# Altium schematic symbol library LED_schematic.SchLib: 15 symbols
Pins are listed as number, name and electrical type; pins without a type are passive.

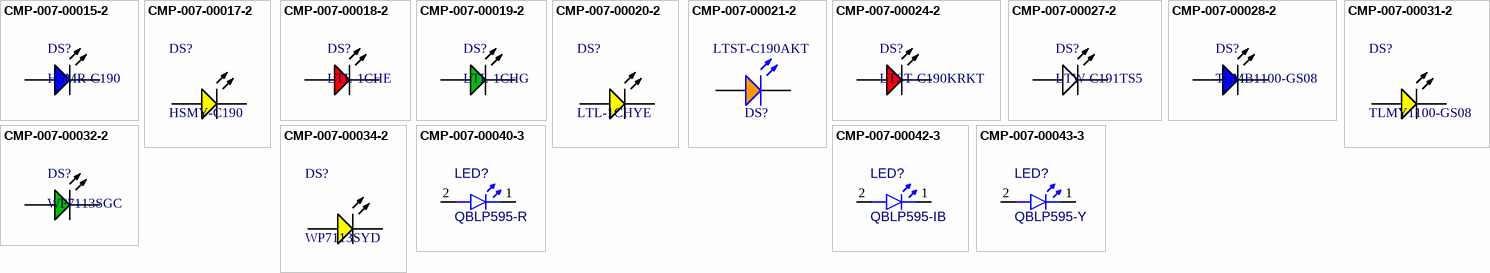
[diagram p0: symbols CMP-007-00015-2 to CMP-007-00043-3]

## CMP-007-00015-2
designator DS?, comment HSMR-C190
LED Uni-Color Blue, 78 mW, 20 mA, -40 to 85 degC, 2-Pin SMD, RoHS, Tape and Reel; Manufacturer: Avago; Forward Voltage: 3.4V; Power: 78mW; Forward Current: 20mA; Luminous Intensity: 55mcd; Lens Style: Diffused; Viewing Angle: 155degrees; Pins: 2; Max Operating Temperature: 85°C; Colour: Blue; Datasheet Version: Apr-10; RoHS Compliant: True; Mounting Technology: SM; Min Operating Temperature: -40°C; Illumination Colour: Blue; Package Quantity: 4000; Datasheet URL: http://docs.avagotech.com/docs/AV02-0977EN; Package Reference: HSMX-C190; Packaging: TapeandReel; Nominal Vf: 3.4V; Case/Package: 0603; Package Description: 2-Pin Surface Mount Device, Body 1.6 x 0.8 mm, Height 0.9 mm; Manufacturer URL: http://www.avagotech.com/
footprint AVAG-HSMX-C190_V (SMD, 2-Leads, Body 1.6x0.8mm, Height 0.9mm)
pins: 1 A, 2 K

## CMP-007-00017-2
designator DS?, comment HSMY-C190
LED Uni-Color Yellow, 65 mW, 20 mA, -40 to 85 degC, 2-Pin SMD, RoHS, Tape and Reel; Manufacturer: Avago; Forward Current: 20mA; Viewing Angle: 170degrees; Power: 52mW; Lens Style: Diffused; Nominal Vf: 2.1V; Luminous Intensity: 8mcd; Max Operating Temperature: 85°C; Package Quantity: 4000; Package Description: 2-Pin Surface Mount Device, Body 1.6 x 0.8 mm, Height 0.9 mm; Packaging: TapeandReel; Case/Package: 0603; Datasheet Version: Mar-12; Min Operating Temperature: -40°C; Pins: 2; Illumination Colour: Yellow; Package Reference: HSMX-C190; Colour: Yellow; Manufacturer URL: http://www.avagotech.com/; Datasheet URL: http://docs.avagotech.com/docs/AV02-0551EN; Forward Voltage: 2.1V; RoHS Compliant: True; Mounting Technology: SM
footprint AVAG-HSMX-C190_V (SMD, 2-Leads, Body 1.6x0.8mm, Height 0.9mm)
pins: 1 A, 2 K

## CMP-007-00018-2
designator DS?, comment LTL-1CHE
LED Uni-Color Red, 100 mW, 30 mA, -55 to 100 degC, 2-Pin THD, RoHS, Bulk; Manufacturer: Lite-On; Forward Current: 20mA; Nominal Vf: 2V; Viewing Angle: 60degrees; Luminous Intensity: 12.6mcd; Lens Style: Dome; Pins: 2; RoHS Compliant: True; Package Reference: LTL-1CHE; Package Quantity: 1000; Mounting Technology: TH; Min Operating Temperature: -55°C; Colour: Red; Case/Package: Radial; Manufacturer URL: http://www.us.liteon.com/; Datasheet URL: https://datasheet.ciiva.com/15117/getdatasheetpartid-187746-15117985.pdf; Forward Voltage: 2V; Max Operating Temperature: 100°C; Illumination Colour: Red; Package Description: 2-Pin Through Hole Device, Dia 3.8 mm, Pitch 2.54 mm; Packaging: Bulk; Datasheet Version: Dec-03
footprint INDPR60-254-520X380X650 (THD, 2-Leads, Dia 3.8mm, Pitch 2.54mm)
pins: 1 A, 2 K

## CMP-007-00019-2
designator DS?, comment LTL-1CHG
LED Uni-Color Green, 100 mW, 30 mA, -55 to 100 degC, 2-Pin THD, RoHS, Bulk; Manufacturer: Lite-On; Power: 100mW; Forward Voltage: 2.6V; Forward Current: 30mA; Nominal Vf: 2.1V; Lens Style: Dome; Viewing Angle: 60degrees; Luminous Intensity: 12.6mcd; Max Operating Temperature: 100°C; Case/Package: Radial; Package Reference: LTL-1CHG; Manufacturer URL: http://www.us.liteon.com/; Package Quantity: 1000; Colour: Green; Packaging: Bulk; RoHS Compliant: True; Datasheet URL: http://datasheet.octopart.com/LTL-1CHG-Lite-On-datasheet-143841.pdf; Package Description: 2-Pin Through Hole Device, Dia 3.8 mm; Min Operating Temperature: -55°C; Mounting Technology: TH; Pins: 2; Illumination Colour: Green; Datasheet Version: Mar-00
footprint LTST-LTL-1CHG-2 (TH, 2-Leads, Dia 3.8mm)
pins: 1 A, 2 K

## CMP-007-00020-2
designator DS?, comment LTL-1CHYE
LED Uni-Color Yellow, 60 mW, 20 mA, -55 to 100 degC, 2-Pin THD, RoHS, Bulk; Manufacturer: Lite-On; Nominal Vf: 2.1V; Luminous Intensity: 40mcd; Lens Style: Dome; Forward Current: 20mA; Viewing Angle: 45degrees; Max Operating Temperature: 100°C; Case/Package: Radial; Min Operating Temperature: -55°C; Colour: Yellow; Datasheet Version: Rev. B, 07/2013; Packaging: Bulk; Illumination Colour: Yellow; Package Quantity: 1000; Pins: 2; Package Reference: LTL-1CHYE; Forward Voltage: 2.1V; Mounting Technology: TH; Datasheet URL: https://datasheet.ciiva.com/4269/s-110-ltl-1chye-4269126.pdf; RoHS Compliant: True; Package Description: 2-Pin Through Hole Device, Dia 3.8 mm, Pitch 2.54 mm; Manufacturer URL: http://www.us.liteon.com/
footprint LTST-LTL-1CHYE (THD, 2-Leads, Dia 3.8mm, Pitch 2.54mm)
pins: 1 A, 2 K

## CMP-007-00021-2
designator DS?, comment LTST-C190AKT
LED Uni-Color Orange, 100 mW, 30 mA, -55 to 85 degC, 2-Pin SMD, RoHS, Tape and Reel; Manufacturer: Lite-On; Lens Style: Clear; Forward Voltage: 2.1V; Luminous Intensity: 2mcd; Forward Current: 20mA; Viewing Angle: 130degrees; Package Reference: LTST-C190AKT-2; Case/Package: 0603; Min Operating Temperature: -55°C; Package Quantity: 3000; Illumination Colour: Orange; RoHS Compliant: True; Mounting Technology: SM; Manufacturer URL: http://www.us.liteon.com/; Datasheet URL: http://datasheet.octopart.com/LTST-C190AKT-Lite-On-datasheet-11729267.pdf; Pins: 2; Max Operating Temperature: 85°C; Packaging: TapeandReel; Colour: Orange; Nominal Vf: 2.1V; Datasheet Version: Jan-03; Package Description: 2-Pin Surface Mount Device, Body 1.6 x 0.8 mm
footprint LTST-C190AKT-2_V (SMD, 2-Leads, Body 1.6x0.8mm)
pins: 1 A, 2 K

## CMP-007-00024-2
designator DS?, comment LTST-C190KRKT
LED Uni-Color Red, 62.5 mW, 25 mA, -30 to 85 degC, 2-Pin SMD, RoHS, Tape and Reel; Manufacturer: Lite-On; Power: 75mW; Forward Voltage: 2V; Luminous Intensity: 54mcd; Lens Style: Diffused; Viewing Angle: 130degrees; Forward Current: 20mA; Manufacturer URL: http://www.us.liteon.com/; Case/Package: 0603; Datasheet Version: Rev. F, 05/2013; Package Reference: C191KRKT; Datasheet URL: http://optoelectronics.liteon.com/upload/download/DS-22-99-0151/S_110_LTST-C190KRKT.pdf; Package Description: 2-Pin Surface Mount Device, Body 1.6 x 0.8 mm; Nominal Vf: 2V; Packaging: TapeandReel; RoHS Compliant: True; Pins: 2; Illumination Colour: Red; Colour: Red; Mounting Technology: SM; Package Quantity: 3000; Min Operating Temperature: -55°C; Max Operating Temperature: 85°C
footprint LTST-C191KRKT_V (SMD, 2-Leads, Body 1.6x0.8mm)
pins: 1 A, 2 K

## CMP-007-00027-2
designator DS?, comment LTW-C191TS5
LED Uni-Color White, 70 mW, 20 mA, -20 to 80 degC, 2-Pin SMD, RoHS, Tape and Reel; Manufacturer: Lite-On; Power: 70mW; Forward Current: 5mA; Viewing Angle: 130degrees; Luminous Intensity: 28mcd; Lens Style: Diffused; Nominal Vf: 2.93V; Forward Voltage: 3.15V; Pins: 2; Illumination Colour: White; Datasheet Version: Rev. B, 06/2010; Package Quantity: 1; Colour: White; Package Reference: LTW-C191TS5; Mounting Technology: SM; Package Description: 2-Pin Surface Mount Device, Body 1.6 x 0.8 mm; Manufacturer URL: http://www.us.liteon.com/; Datasheet URL: http://optoelectronics.liteon.com/upload/download/DS22-2004-201/S_110_LTW-C191TS5.pdf; Max Operating Temperature: 80°C; Case/Package: 0603; RoHS Compliant: True; Min Operating Temperature: -20°C; Packaging: TapeandReel
footprint LTST-LTW-C191TS5_V (SMD, 2-Leads, Body 1.6x0.8mm)
pins: 1 A, 2 K

## CMP-007-00028-2
designator DS?, comment TLMB1100-GS08
Blue LED, 10 mA, 3.9 V, -40 to 100 degC, 2-Pin SMD (0603), RoHS, Tape and Reel; Manufacturer: Vishay Semiconductor; Forward Voltage: 3.9V; Viewing Angle: 160degrees; Power: 68mW; Forward Current: 10mA; Lens Style: Diffused; Luminous Intensity: 5mcd; Case/Package: 0603; Datasheet URL: http://download.siliconexpert.com/pdfs/2016/8/7/12/43/26/667/vsh_/manual/379263299541529tlmb1100.pdf; Illumination Colour: Blue; Datasheet Version: Rev. 2.7, 03/2016; Manufacturer URL: http://www.vishay.com/; Package Reference: 0603; Min Operating Temperature: -40°C; Packaging: TapeandReel; RoHS Compliant: True; Nominal Vf: 3.9V; Mounting Technology: SM; Pins: 2; Package Description: 2-Pin Surface Mount Device, Body 1.6 x 0.8 mm; Colour: Blue; Package Quantity: 3000; Max Operating Temperature: 100°C
footprint VISH-TLMX1100-2_V (SMD, 2-Leads, Body 1.6x0.8mm)
pins: 1 A, 2 K

## CMP-007-00031-2
designator DS?, comment TLMY1100-GS08
Yellow LED, 20 mA, 2.1 V, -40 to 100 degC, 2-Pin SMD (0603), RoHS, Tape and Reel; Manufacturer: Vishay Semiconductor; Power: 90mW; Lens Style: Diffused; Nominal Vf: 2.1V; Forward Current: 20mA; Luminous Intensity: 80mcd; Viewing Angle: 160degrees; Manufacturer URL: http://www.vishay.com/; Package Reference: 0603; Packaging: TapeandReel; Case/Package: 0603; Datasheet Version: Rev. 2.7, 03/2016; Package Quantity: 3000; Forward Voltage: 2.1V; RoHS Compliant: True; Mounting Technology: SM; Datasheet URL: http://download.siliconexpert.com/pdfs/2016/8/7/12/43/26/667/vsh_/manual/379263299541529tlmb1100.pdf; Min Operating Temperature: -40°C; Pins: 2; Package Description: 2-Pin Surface Mount Device, Body 1.6 x 0.8 mm; Colour: Yellow; Max Operating Temperature: 100°C; Illumination Colour: Yellow
footprint VISH-TLMX1100-2_V (SMD, 2-Leads, Body 1.6x0.8mm)
pins: 1 A, 2 K

## CMP-007-00032-2
designator DS?, comment WP7113SGC
The Super Bright Green Source Color Device, 2.2 V, -40 to 85 degC, 2-Pin THD, RoHS, Tape and Reel; Manufacturer: Kingbright; Luminous Intensity: 200mcd; Nominal Vf: 2.2V; Viewing Angle: 20degrees; Lens Style: Clear; Mounting Technology: TH; Forward Voltage: 2.2V; Colour: Green; Package Quantity: 1000; Datasheet Version: Rev. 9B, 01/2015; RoHS Compliant: True; Case/Package: Radial; Package Description: 2-Pin Through Hole Device, Dia 5.9 mm, Body Length 8.6 mm; Packaging: Bulk; Illumination Colour: Green; Datasheet URL: http://www.kingbrightusa.com/images/catalog/SPEC/WP7113SGC.pdf; Package Reference: WP7113SGC
footprint KING-WP7113SGC_V (THD, 2-Leads, Dia 5.9mm, Body Length 8.6mm)
pins: 1 A, 2 K

## CMP-007-00034-2
designator DS?, comment WP7113SYD
The Super Bright Yellow Source Color Device, 2 V, -40 to 85 degC, 2-Pin THD, RoHS, Tape and Reel; Manufacturer: Kingbright; Nominal Vf: 2V; Viewing Angle: 30degrees; Luminous Intensity: 600mcd; Forward Current: 20mA; Lens Style: Diffused; Datasheet Version: Rev. 7B, 01/2015; RoHS Compliant: True; Datasheet URL: http://www.kingbrightusa.com/images/catalog/SPEC/WP7113SYD.pdf; Illumination Colour: Yellow; Package Reference: WP7113SYD; Mounting Technology: TH; Package Quantity: 500; Packaging: Bulk; Package Description: 2-Pin Through Hole Device, Dia 5.9 mm, Body Length 8.6 mm; Case/Package: Radial; Colour: Yellow; Forward Voltage: 2V
footprint KING-WP7113SYD_V (THD, 2-Leads, Dia 5.9mm, Body Length 8.6mm)
pins: 1 A, 2 K

## CMP-007-00040-3
designator LED?, comment QBLP595-R
Chip LED 0402, Red, 0.02 A, 2.0 to 2.5 V, -40 to 80 degC, 2-Pin SMD, RoHS, Tape and Reel; Colour: Red; RoHS Compliant: Yes; Case/Package: 0402; Pins: 2; Mounting Technology: SMT
footprint QTB-QBLP595_V (SMD, 2-Leads, Body 1x0.5mm)
footprint QTB-QBLP595_V (SMD, 2-Leads, Body 1x0.5mm)
pins: 1 K, 2 A

## CMP-007-00042-3
designator LED?, comment QBLP595-IB
Chip LED 0402, Blue, 0.02 A, 3.1 to 3.7 V, -40 to 80 degC, 2-Pin SMD, RoHS, Tape and Reel; RoHS Compliant: Yes; Colour: Blue; Pins: 2; Case/Package: 0402; Mounting Technology: SMT
footprint QTB-QBLP595_V (SMD, 2-Leads, Body 1x0.5mm)
footprint QTB-QBLP595_V (SMD, 2-Leads, Body 1x0.5mm)
pins: 1 K, 2 A

## CMP-007-00043-3
designator LED?, comment QBLP595-Y
Chip LED 0402, Yellow, 0.02 A, 3.1 to 3.7 V, -40 to 80 degC, 2-Pin SMD, RoHS, Tape and Reel; Mounting Technology: SMT; Case/Package: 0402; RoHS Compliant: Yes; Pins: 2; Colour: Yellow
footprint QTB-QBLP595_V (SMD, 2-Leads, Body 1x0.5mm)
footprint QTB-QBLP595_V (SMD, 2-Leads, Body 1x0.5mm)
pins: 1 K, 2 A